# EAGLE library part ATTINY102 (library atmel)
8-bit AVR tiny Microcontroller Status aktiv ATtiny102 General purpose working registers 16 SRAM 32 B Program flash memory 1 kB 16-bit Timer/Counter 1 USART 1 ADC channels 5 ADC resolution 10 bit AC 1 Watchdog 1 General purpose I/O 6 External interrupts 6 Operating voltage 1.8 ... 5.5 V Speed grade 0 ... 4 MHz @ 1.8 ... 5.5 V 0 ... 8 MHz @ 2.7 ... 5.5 V 0 ... 12 MHz @ 4.5 ... 5.5 V Clock options calibrated internal 8 MHz oscillator internal 128 kHz oscillator external clock input The thermal pad of the DFN8 package should not be connected!
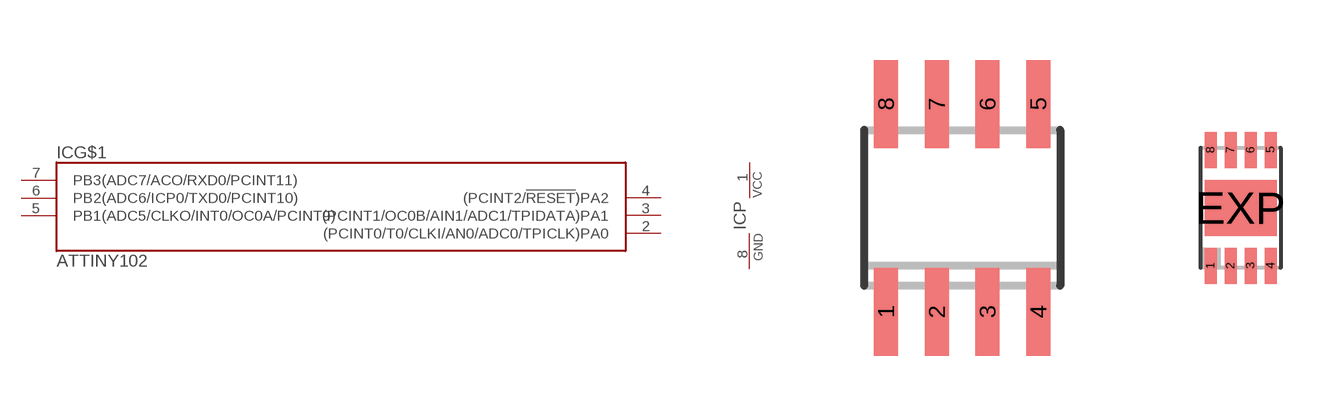
[diagram p82: symbol with the pads of SO8; footprints SO8, DFN8_2X3]

Designator prefix IC; gates G$1=TINY102 P=PWR

## ATTINY102-SSN  [SO8]
1  P:VCC  pwr
2  G$1:(PCINT0/T0/CLKI/AN0/ADC0/TPICLK)PA0
3  G$1:(PCINT1/OC0B/AIN1/ADC1/TPIDATA)PA1
4  G$1:(PCINT2/!RESET!)PA2
5  G$1:PB1(ADC5/CLKO/INT0/OC0A/PCINT9)
6  G$1:PB2(ADC6/ICP0/TXD0/PCINT10)
7  G$1:PB3(ADC7/ACO/RXD0/PCINT11)
8  P:GND  pwr

## ATTINY102-SSF  [SO8]
Pads as for SO8

## ATTINY102-M7  [DFN8_2X3]
Pads as for SO8

## ATTINY102-M8  [DFN8_2X3]
Pads as for SO8

## Footprint SO8 (pad centres in mm)
Small Outline IC, 150mil body width, 50mil lead pitch package/pad dimensions according to IPC-SM-782, RLP No. 300A JEDEC: MS-012 AA IPC: SO8 other notations: SO-8, SO08, SO-08, SOIC8, SOIC-8, SOIC08, SOIC-08
smd 0.6 x 2.2: 1 -1.905,-2.6; 2 -0.635,-2.6; 3 0.635,-2.6; 4 1.905,-2.6; 5 1.905,2.6; 6 0.635,2.6; 7 -0.635,2.6; 8 -1.905,2.6

## Footprint DFN8_2X3 (pad centres in mm)
8-Lead Plastic DFN 2mm x 3mm body, 0.5mm lead pitch, exposed pad ATMEL Code: 8MA2
smd 0.3 x 0.9: 1 -0.75,-1.45; 2 -0.25,-1.45; 3 0.25,-1.45; 4 0.75,-1.45; 5 0.75,1.45; 6 0.25,1.45; 7 -0.25,1.45; 8 -0.75,1.45
smd 1.8 x 1.4: EXP 0,0